# Altium schematic symbol library EE209_SCHLibrary.SchLib: 15 symbols
Pins are listed as number, name and electrical type; pins without a type are passive.

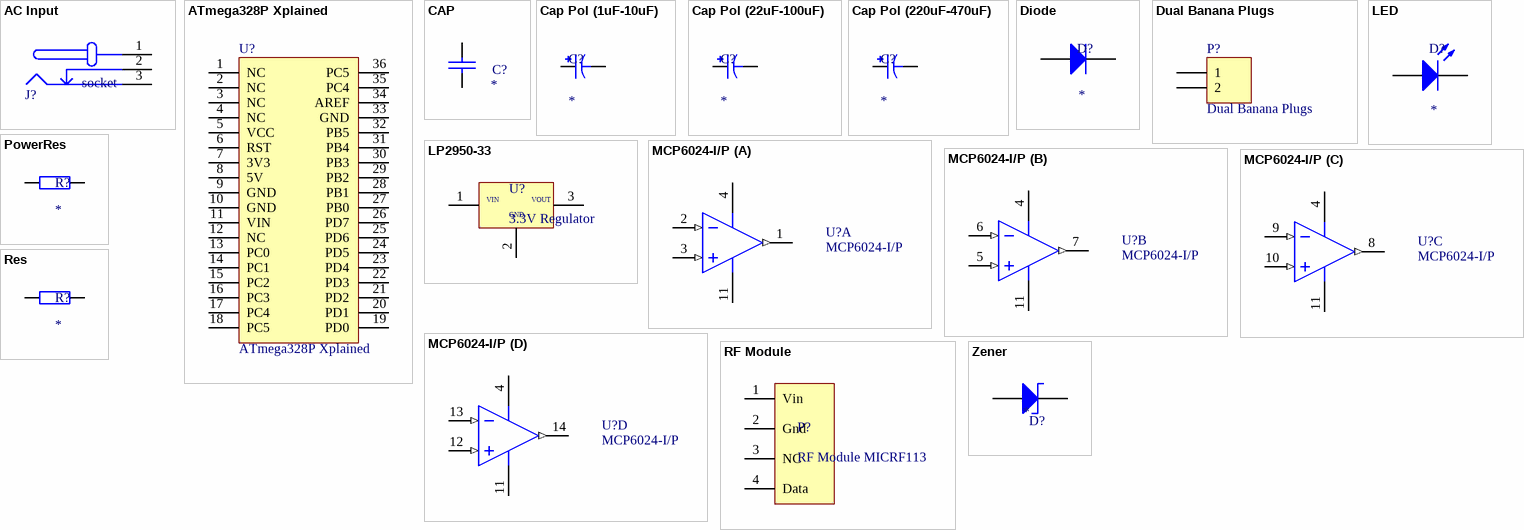
[diagram p0: symbols AC Input to Zener]

## AC Input
designator J?, comment socket
DC socket; Value: socket
footprint AC-Socket
pins: 1 VCC (power) "Common VCC", 2 GND_ALT (power) "Alternate Supply Ground", 3 GND (power) "Common Ground"

## ATmega328P Xplained
designator U?
Header, 18-Pin, Dual row; LatestRevisionDate: 17-Jul-2002; LatestRevisionNote: Re-released for DXP Platform.; Publisher: Altium Limited
footprint ATmeg328P Xplained
pins: 1 NC, 2 NC, 3 NC, 4 NC, 5 VCC (power), 6 RST, 7 3V3, 8 5V (power), 9 GND (power), 10 GND (power), 11 VIN (power), 12 NC, 13 PC0, 14 PC1, 15 PC2, 16 PC3, 17 PC4, 18 PC5, 19 PD0, 20 PD1, 21 PD2, 22 PD3, 23 PD4, 24 PD5, 25 PD6, 26 PD7, 27 PB0, 28 PB1, 29 PB2, 30 PB3, 31 PB4, 32 PB5, 33 GND, 34 AREF, 35 PC4, 36 PC5

## CAP
designator C?
Capacitor Non Polarised Through Hole; Value: *
footprint FILM CAP-0.2
footprint 0805 CAP (http://www.digikey.co.nz/Web%20Export/Supplier%20Content/Vishay_8026/PDF/VishayBeyschlag_SolderPad.pdf?redirected=1 with dimension G modified by +0.25mm)
pins: 1, 2

## Cap Pol (1uF-10uF)
designator C?
Polarized Capacitor (Axial); Published: 8-Jun-2000; LatestRevisionDate: 17-Jul-2002; LatestRevisionNote: Re-released for DXP Platform.; PackageReference: POLAR0.8; Publisher: Altium Limited; PackageDescription: Polarized Capacitor; 2 Leads; Value: *
footprint CAP-RAD-2mm Pitch (Cap 5 X 6.8)
pins: 1, 2
1 alternate drawing of the same symbol

## Cap Pol (22uF-100uF)
designator C?
Polarized Capacitor (Axial); Published: 8-Jun-2000; LatestRevisionDate: 17-Jul-2002; LatestRevisionNote: Re-released for DXP Platform.; PackageReference: POLAR0.8; Publisher: Altium Limited; PackageDescription: Polarized Capacitor; 2 Leads; Value: *
footprint CAP-RAD-3mm Pitch
pins: 1, 2
1 alternate drawing of the same symbol

## Cap Pol (220uF-470uF)
designator C?
Polarized Capacitor (Axial); Published: 8-Jun-2000; LatestRevisionDate: 17-Jul-2002; LatestRevisionNote: Re-released for DXP Platform.; PackageReference: POLAR0.8; Publisher: Altium Limited; PackageDescription: Polarized Capacitor; 2 Leads; Value: *
footprint CAP-RAD-7.5mm Pitch
pins: 1, 2
1 alternate drawing of the same symbol

## Diode
designator D?
Manufacturer: Fairchild Semiconductor; Revision 1: 11-July-2000: SIM Model Added.; Revision 2: July-2002: Re-released for DXP Platform.; Class I: Discrete; Class II: Diode - Switching; Published: 8-Jun-2000; Datasheet: Latest Revision: 1997; Package Reference: DO-35; Publisher: Altium Limited; Value: *
footprint AXIAL-DIODE-0.4
pins: 1 A, 2 K

## Dual Banana Plugs
designator P?
M6 Holes; LatestRevisionDate: 17-Jul-2002; LatestRevisionNote: Re-released for DXP Platform.; Publisher: Altium Limited
footprint Dual Banana Plug (Connector; 2 Position)
pins: 1, 2

## LED
designator D?
Typical GaAs LED; Manufacturer: Generic Components; Class I: Optoelectronic; Published: 8-Jun-2000; Revision: July-2002: Re-released for DXP Platform.; Publisher: Altium Limited; Class II: LED; Value: *
footprint LED
pins: 1 A, 2 K

## LP2950-33
designator U?, comment 3.3V Regulator
footprint TO-92 (TO, Flat Index; 3 In-Line, Axial Leads; Body Dia. 4.5mm; Leads 0.51 x 0.48 mm (max))
pins: 1 INPUT, 2 GND, 3 OUTPUT
text: VIN; VOUT

## MCP6024-I/P
designator U?
Rail-to-Rail Input/Output, 10 MHz Operational Amplifier, 14-Pin PDIP, Industrial Temperature; FirstPublished: 29-Jan-2009; LatestRevisionDate: 02-Dec-2009; LatestRevisionNote: Updated to datasheet revision D, Feb-2009; DatasheetVersion: revD, Feb-2009; PackageVersion: revBB, Aug-2009; PackageReference: PDIP300-P14; Publisher: Altium Limited; PackageDescription: 14-Lead Plastic Dual In-Line (P) - 300 mil Body [PDIP]; ComponentLink1Description: Datasheet; ComponentLink1URL: http://ww1.microchip.com/downloads/en/DeviceDoc/21685d.pdf; ComponentLink2Description: Packaging Specification; ComponentLink2URL: http://www.microchip.com/stellent/groups/techpub_sg/documents/packagingspec/en012702.pdf; ComponentLink3Description: Microchip.com Home; ComponentLink3URL: http://www.microchip.com/
footprint DIP-14 (DIP; 14 Leads; Row Spacing 7.62 mm; Pitch 2.54 mm)
pins on every part: 4 VDD (power), 11 VSS (power)
part A pins: 1 VOUTA (out), 2 VINA- (in), 3 VINA+ (in)
part B pins: 5 VINB+ (in), 6 VINB- (in), 7 VOUTB (out)
part C pins: 8 VOUTC (out), 9 VINC- (in), 10 VINC+ (in)
part D pins: 12 VIND+ (in), 13 VIND- (in), 14 VOUTD (out)

## PowerRes
designator R?
High Wattage Resistor; Published: 8-Jun-2000; LatestRevisionDate: 17-Jul-2002; LatestRevisionNote: Re-released for DXP Platform.; PackageReference: AXIAL-0.4; Publisher: Altium Limited; Value: *
footprint AXIAL-0.9
pins: 1, 2

## Res
designator R?
Through Hole Resistor; Published: 8-Jun-2000; LatestRevisionDate: 17-Jul-2002; LatestRevisionNote: Re-released for DXP Platform.; PackageReference: AXIAL-0.4; Publisher: Altium Limited; Value: *
footprint AXIAL-0.4
footprint 0805 RES (http://www.digikey.co.nz/Web%20Export/Supplier%20Content/Vishay_8026/PDF/VishayBeyschlag_SolderPad.pdf?redirected=1 with dimension G modified by +0.25mm)
pins: 1, 2

## RF Module
designator P?, comment RF Module MICRF113
Vertical Mount RF Module
footprint MICRF113 TX
pins: 1 Vin, 2 Gnd, 3 NC, 4 Data

## Zener
designator D?
Zener Diode; Value: *
footprint AXIAL-DIODE-0.4
pins: 1 A, 2 K